# Altium schematic symbol library TRIAC.SchLib: 2 symbols
Pins are listed as number, name and electrical type; pins without a type are passive.

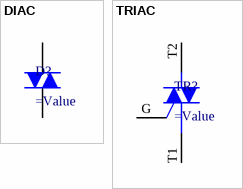
[diagram p0: symbols DIAC to TRIAC]

## DIAC
designator D?
=Description
pins: MT1 1, MT2 2

## TRIAC
designator TR?
=Description
pins: G 3, T1 2, T2 1